# Altium schematic symbol library SCHA5B0200_.SchLib: 1 symbol
Pins are listed as number, name and electrical type; pins without a type are passive.

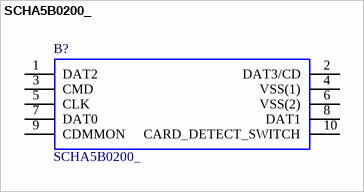
[diagram p0: symbol SCHA5B0200_]

## SCHA5B0200_
designator B?
Memory Card Connectors microSD Rev Mount Push-push w/Switch; Manufacturer_Name: ALPS; Geometry.Height: mm; Supplier_Name: RS; RS Part Number: *; Manufacturer_Part_Number: SCHA5B0200_; Allied_Number: *; Other Part Number: *; Datasheet Link: http://www.mouser.com/ds/2/15/scha-186221.pdf; 3D Package: *
footprint SCHA5B0200
pins: 1 DAT2, 2 DAT3/CD, 3 CMD, 4 VSS(1), 5 CLK, 6 VSS(2), 7 DAT0, 8 DAT1, 9 CDMMON, 10 CARD_DETECT_SWITCH